# Altium footprint library Common-Parts-Library.PcbLib: 20 footprints (part 1 of 2)
Each footprint in its own frame and in the unit in brackets; x right, y up, seen from the top. Pads: shape width x height; smd on the part's side, far side on the other; paste and mask are expansions set on the pad; w line width, h text height; cw(c..) or ccw(c..) is an arc to the next point about the centre after c.
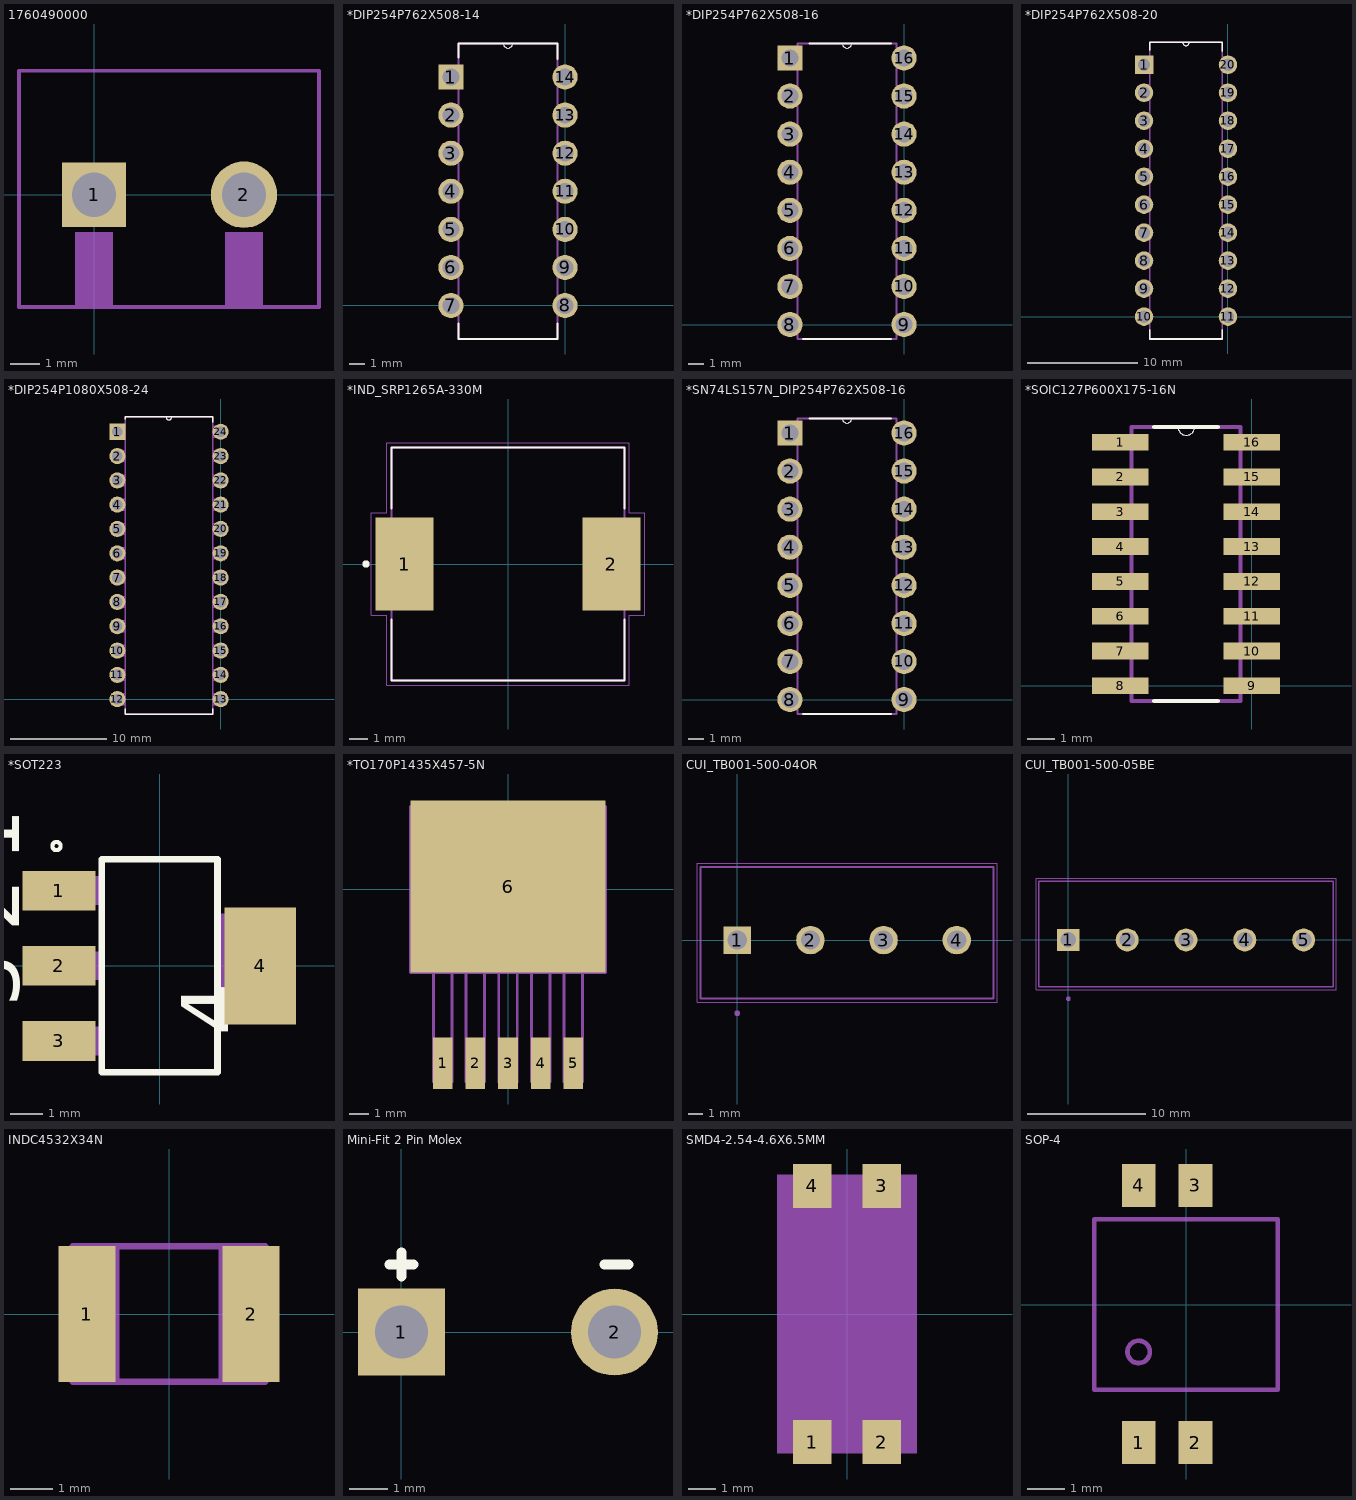
[diagram p0: the footprints below, top view; thin cyan lines are the x and y axes]

## 1760490000 [mil]
pads (2):
  rect 85.78x85.78 / inner rect 60x60 / far side rect 85.78x85.78 hole 59.06: 1(0,0)
  round 88.59 / inner round 60 / far side round 88.59 hole 59.06: 2(200,0)
Mechanical 22:
  region: -25.01,-150.06 -25.01,-50 25,-50 25,-150.06
  region: 175.22,-150.19 175.22,-50 225,-50 225,-150.19
  lines w5: -100,-149.61 -100,165.35 300,165.35 300,-149.61 -100,-149.61

## *DIP254P762X508-14 [mil]
pads (14):
  rect 66x66 hole 44: 1(-300,600)
  round 66 hole 44: 2(-300,500) 3(-300,400) 4(-300,300) 5(-300,200) 6(-300,100) 7(-300,0) 8(0,0) 9(0,100) 10(0,200) 11(0,300) 12(0,400) 13(0,500) 14(0,600)
Top Overlay:
  lines w0: -162,688 ccw(c-150,688) -138,688
  lines w6: -280,-48 -280,-88 -20,-88 -20,-48 ; -280,652 -280,688 -162,688 -138,688 -20,688 -20,648
Mechanical 4:
  lines w0: -162,688 ccw(c-150,688) -138,688 cw(c-150,688) -162,688
  lines w6: -322,-22 -322,22 ; -322,-22 -280,-22 ; -322,-22 -322,22 ; -322,-22 -280,-22 ; -322,22 -280,22 ; -322,22 -280,22 ; -322,78 -322,122 ; -322,78 -280,78 ; -322,78 -322,122 ; -322,78 -280,78 ; -322,122 -280,122 ; -322,122 -280,122 ; -322,178 -322,222 ; -322,178 -280,178 ; -322,178 -322,222 ; -322,178 -280,178 ; -322,222 -280,222 ; -322,222 -280,222 ; -322,278 -322,322 ; -322,278 -280,278 ; -322,278 -322,322 ; -322,278 -280,278 ; -322,322 -280,322 ; -322,322 -280,322 ; -322,378 -322,422 ; -322,378 -280,378 ; -322,378 -322,422 ; -322,378 -280,378 ; -322,422 -280,422 ; -322,422 -280,422 ; -322,478 -322,522 ; -322,478 -280,478 ; -322,478 -322,522 ; -322,478 -280,478 ; -322,522 -280,522 ; -322,522 -280,522 ; -322,578 -322,622 ; -322,578 -280,578 ; -322,578 -322,622 ; -322,578 -280,578 ; -322,622 -280,622 ; -322,622 -280,622 ; -280,-88 -20,-88 ; -280,-88 -280,688 ; -280,-88 -20,-88 ; -280,-88 -280,688 ; -280,-22 -280,22 ; -280,-22 -280,22 ; -280,78 -280,122 ; -280,78 -280,122 ; -280,178 -280,222 ; -280,178 -280,222 ; -280,278 -280,322 ; -280,278 -280,322 ; -280,378 -280,422 ; -280,378 -280,422 ; -280,478 -280,522 ; -280,478 -280,522 ; -280,578 -280,622 ; -280,578 -280,622 ; -280,688 -162,688 ; -280,688 -162,688 ; -162,688 -138,688 ; -162,688 -138,688 ; -138,688 -20,688 ; -138,688 -20,688 ; -20,-88 -20,688 ; -20,-88 -20,688 ; -20,-22 -20,22 ; -20,-22 22,-22 ; -20,-22 -20,22 ; -20,-22 22,-22 ; -20,22 22,22 ; -20,22 22,22 ; -20,78 -20,122 ; -20,78 22,78 ; -20,78 -20,122 ; -20,78 22,78 ; -20,122 22,122 ; -20,122 22,122 ; -20,178 -20,222 ; -20,178 22,178 ; -20,178 -20,222 ; -20,178 22,178 ; -20,222 22,222 ; -20,222 22,222 ; -20,278 -20,322 ; -20,278 22,278 ; -20,278 -20,322 ; -20,278 22,278 ; -20,322 22,322 ; -20,322 22,322 ; -20,378 -20,422 ; -20,378 22,378 ; -20,378 -20,422 ; -20,378 22,378 ; -20,422 22,422 ; -20,422 22,422 ; -20,478 -20,522 ; -20,478 22,478 ; -20,478 -20,522 ; -20,478 22,478 ; -20,522 22,522 ; -20,522 22,522 ; -20,578 -20,622 ; -20,578 22,578 ; -20,578 -20,622 ; -20,578 22,578 ; -20,622 22,622 ; -20,622 22,622 ; 22,-22 22,22 ; 22,-22 22,22 ; 22,78 22,122 ; 22,78 22,122 ; 22,178 22,222 ; 22,178 22,222 ; 22,278 22,322 ; 22,278 22,322 ; 22,378 22,422 ; 22,378 22,422 ; 22,478 22,522 ; 22,478 22,522 ; 22,578 22,622 ; 22,578 22,622

## *DIP254P762X508-16 [mil]
pads (16):
  rect 66x66 hole 44: 1(-300,700)
  round 66 hole 44: 2(-300,600) 3(-300,500) 4(-300,400) 5(-300,300) 6(-300,200) 7(-300,100) 8(-300,0) 9(0,0) 10(0,100) 11(0,200) 12(0,300) 13(0,400) 14(0,500) 15(0,600) 16(0,700)
Top Overlay:
  lines w0: -162,738 ccw(c-150,738) -138,738
  lines w6: -265,-38 -35,-38 ; -248,738 -162,738 -138,738 -35,738
Mechanical 4:
  lines w0: -162,738 ccw(c-150,738) -138,738 cw(c-150,738) -162,738
  lines w6: -322,-22 -322,22 ; -322,-22 -280,-22 ; -322,-22 -322,22 ; -322,-22 -280,-22 ; -322,22 -280,22 ; -322,22 -280,22 ; -322,78 -322,122 ; -322,78 -280,78 ; -322,78 -322,122 ; -322,78 -280,78 ; -322,122 -280,122 ; -322,122 -280,122 ; -322,178 -322,222 ; -322,178 -280,178 ; -322,178 -322,222 ; -322,178 -280,178 ; -322,222 -280,222 ; -322,222 -280,222 ; -322,278 -322,322 ; -322,278 -280,278 ; -322,278 -322,322 ; -322,278 -280,278 ; -322,322 -280,322 ; -322,322 -280,322 ; -322,378 -322,422 ; -322,378 -280,378 ; -322,378 -322,422 ; -322,378 -280,378 ; -322,422 -280,422 ; -322,422 -280,422 ; -322,478 -322,522 ; -322,478 -280,478 ; -322,478 -322,522 ; -322,478 -280,478 ; -322,522 -280,522 ; -322,522 -280,522 ; -322,578 -322,622 ; -322,578 -280,578 ; -322,578 -322,622 ; -322,578 -280,578 ; -322,622 -280,622 ; -322,622 -280,622 ; -322,678 -322,722 ; -322,678 -280,678 ; -322,678 -322,722 ; -322,678 -280,678 ; -322,722 -280,722 ; -322,722 -280,722 ; -280,-38 -20,-38 ; -280,-38 -280,738 ; -280,-38 -20,-38 ; -280,-38 -280,738 ; -280,-22 -280,22 ; -280,-22 -280,22 ; -280,78 -280,122 ; -280,78 -280,122 ; -280,178 -280,222 ; -280,178 -280,222 ; -280,278 -280,322 ; -280,278 -280,322 ; -280,378 -280,422 ; -280,378 -280,422 ; -280,478 -280,522 ; -280,478 -280,522 ; -280,578 -280,622 ; -280,578 -280,622 ; -280,678 -280,722 ; -280,678 -280,722 ; -280,738 -162,738 ; -280,738 -162,738 ; -162,738 -138,738 ; -162,738 -138,738 ; -138,738 -20,738 ; -138,738 -20,738 ; -20,-38 -20,738 ; -20,-38 -20,738 ; -20,-22 -20,22 ; -20,-22 22,-22 ; -20,-22 -20,22 ; -20,-22 22,-22 ; -20,22 22,22 ; -20,22 22,22 ; -20,78 -20,122 ; -20,78 22,78 ; -20,78 -20,122 ; -20,78 22,78 ; -20,122 22,122 ; -20,122 22,122 ; -20,178 -20,222 ; -20,178 22,178 ; -20,178 -20,222 ; -20,178 22,178 ; -20,222 22,222 ; -20,222 22,222 ; -20,278 -20,322 ; -20,278 22,278 ; -20,278 -20,322 ; -20,278 22,278 ; -20,322 22,322 ; -20,322 22,322 ; -20,378 -20,422 ; -20,378 22,378 ; -20,378 -20,422 ; -20,378 22,378 ; -20,422 22,422 ; -20,422 22,422 ; -20,478 -20,522 ; -20,478 22,478 ; -20,478 -20,522 ; -20,478 22,478 ; -20,522 22,522 ; -20,522 22,522 ; -20,578 -20,622 ; -20,578 22,578 ; -20,578 -20,622 ; -20,578 22,578 ; -20,622 22,622 ; -20,622 22,622 ; -20,678 -20,722 ; -20,678 22,678 ; -20,678 -20,722 ; -20,678 22,678 ; -20,722 22,722 ; -20,722 22,722 ; 22,-22 22,22 ; 22,-22 22,22 ; 22,78 22,122 ; 22,78 22,122 ; 22,178 22,222 ; 22,178 22,222 ; 22,278 22,322 ; 22,278 22,322 ; 22,378 22,422 ; 22,378 22,422 ; 22,478 22,522 ; 22,478 22,522 ; 22,578 22,622 ; 22,578 22,622 ; 22,678 22,722 ; 22,678 22,722

## *DIP254P762X508-20 [mil]
pads (20):
  rect 66x66 hole 44: 1(-300,900)
  round 66 hole 44: 2(-300,800) 3(-300,700) 4(-300,600) 5(-300,500) 6(-300,400) 7(-300,300) 8(-300,200) 9(-300,100) 10(-300,0) 11(0,0) 12(0,100) 13(0,200) 14(0,300) 15(0,400) 16(0,500) 17(0,600) 18(0,700) 19(0,800) 20(0,900)
Top Overlay:
  lines w0: -162,980 ccw(c-150,980) -138,980
  lines w6: -280,-48 -280,-80 -20,-80 -20,-48 ; -280,952 -280,980 -162,980 -138,980 -20,980 -20,948
Mechanical 4:
  drawing of 174 lines, arcs and shapes, not listed

## *DIP254P1080X508-24 [mil]
pads (24):
  rect 66x66 hole 44: 1(-425,1100)
  round 66 hole 44: 2(-425,1000) 3(-425,900) 4(-425,800) 5(-425,700) 6(-425,600) 7(-425,500) 8(-425,400) 9(-425,300) 10(-425,200) 11(-425,100) 12(-425,0) 13(0,0) 14(0,100) 15(0,200) 16(0,300) 17(0,400) 18(0,500) 19(0,600) 20(0,700) 21(0,800) 22(0,900) 23(0,1000) 24(0,1100)
Top Overlay:
  lines w0: -225,1161 ccw(c-213,1161) -201,1161
  lines w6: -393,-40 -393,-61 -33,-61 -33,-40 ; -393,1152 -393,1161 -225,1161 -201,1161 -33,1161 -33,1140
Mechanical 4:
  drawing of 206 lines, arcs and shapes, not listed

## *IND_SRP1265A-330M [mm]
pads (2):
  rect 3.1x5 smd: 1(-5.55,0) 2(5.55,0)
Top Overlay:
  circle w0.2: c-7.62,0 r0.1
  lines w0.127: -6.25,-3 -6.25,-6.25 6.25,-6.25 6.25,-3 ; -6.25,3 -6.25,6.25 6.25,6.25 6.25,3
Mechanical 4:
  lines w0.127: -6.25,-6.25 6.25,-6.25 ; -6.25,-6.25 -6.25,6.25 ; -6.25,-6.25 6.25,-6.25 ; -6.25,-6.25 -6.25,6.25 ; -6.25,6.25 6.25,6.25 ; -6.25,6.25 6.25,6.25 ; 6.25,-6.25 6.25,6.25 ; 6.25,-6.25 6.25,6.25
Mechanical 16:
  lines w0.05: -7.35,-2.75 -6.5,-2.75 -6.5,-6.5 6.5,-6.5 6.5,-2.75 7.35,-2.75 7.35,2.75 6.5,2.75 6.5,6.5 -6.5,6.5 -6.5,2.75 -7.35,2.75 -7.35,-2.75

## *SN74LS157N_DIP254P762X508-16 [mil]
pads (16):
  rect 66x66 hole 44: 1(-300,700)
  round 66 hole 44: 2(-300,600) 3(-300,500) 4(-300,400) 5(-300,300) 6(-300,200) 7(-300,100) 8(-300,0) 9(0,0) 10(0,100) 11(0,200) 12(0,300) 13(0,400) 14(0,500) 15(0,600) 16(0,700)
Top Overlay:
  lines w0: -162,738 ccw(c-150,738) -138,738
  lines w6: -265,-38 -35,-38 ; -248,738 -162,738 -138,738 -35,738
Mechanical 4:
  lines w0: -162,738 ccw(c-150,738) -138,738 cw(c-150,738) -162,738
  lines w6: -322,-22 -322,22 ; -322,-22 -280,-22 ; -322,-22 -322,22 ; -322,-22 -280,-22 ; -322,22 -280,22 ; -322,22 -280,22 ; -322,78 -322,122 ; -322,78 -280,78 ; -322,78 -322,122 ; -322,78 -280,78 ; -322,122 -280,122 ; -322,122 -280,122 ; -322,178 -322,222 ; -322,178 -280,178 ; -322,178 -322,222 ; -322,178 -280,178 ; -322,222 -280,222 ; -322,222 -280,222 ; -322,278 -322,322 ; -322,278 -280,278 ; -322,278 -322,322 ; -322,278 -280,278 ; -322,322 -280,322 ; -322,322 -280,322 ; -322,378 -322,422 ; -322,378 -280,378 ; -322,378 -322,422 ; -322,378 -280,378 ; -322,422 -280,422 ; -322,422 -280,422 ; -322,478 -322,522 ; -322,478 -280,478 ; -322,478 -322,522 ; -322,478 -280,478 ; -322,522 -280,522 ; -322,522 -280,522 ; -322,578 -322,622 ; -322,578 -280,578 ; -322,578 -322,622 ; -322,578 -280,578 ; -322,622 -280,622 ; -322,622 -280,622 ; -322,678 -322,722 ; -322,678 -280,678 ; -322,678 -322,722 ; -322,678 -280,678 ; -322,722 -280,722 ; -322,722 -280,722 ; -280,-38 -20,-38 ; -280,-38 -280,738 ; -280,-38 -20,-38 ; -280,-38 -280,738 ; -280,-22 -280,22 ; -280,-22 -280,22 ; -280,78 -280,122 ; -280,78 -280,122 ; -280,178 -280,222 ; -280,178 -280,222 ; -280,278 -280,322 ; -280,278 -280,322 ; -280,378 -280,422 ; -280,378 -280,422 ; -280,478 -280,522 ; -280,478 -280,522 ; -280,578 -280,622 ; -280,578 -280,622 ; -280,678 -280,722 ; -280,678 -280,722 ; -280,738 -162,738 ; -280,738 -162,738 ; -162,738 -138,738 ; -162,738 -138,738 ; -138,738 -20,738 ; -138,738 -20,738 ; -20,-38 -20,738 ; -20,-38 -20,738 ; -20,-22 -20,22 ; -20,-22 22,-22 ; -20,-22 -20,22 ; -20,-22 22,-22 ; -20,22 22,22 ; -20,22 22,22 ; -20,78 -20,122 ; -20,78 22,78 ; -20,78 -20,122 ; -20,78 22,78 ; -20,122 22,122 ; -20,122 22,122 ; -20,178 -20,222 ; -20,178 22,178 ; -20,178 -20,222 ; -20,178 22,178 ; -20,222 22,222 ; -20,222 22,222 ; -20,278 -20,322 ; -20,278 22,278 ; -20,278 -20,322 ; -20,278 22,278 ; -20,322 22,322 ; -20,322 22,322 ; -20,378 -20,422 ; -20,378 22,378 ; -20,378 -20,422 ; -20,378 22,378 ; -20,422 22,422 ; -20,422 22,422 ; -20,478 -20,522 ; -20,478 22,478 ; -20,478 -20,522 ; -20,478 22,478 ; -20,522 22,522 ; -20,522 22,522 ; -20,578 -20,622 ; -20,578 22,578 ; -20,578 -20,622 ; -20,578 22,578 ; -20,622 22,622 ; -20,622 22,622 ; -20,678 -20,722 ; -20,678 22,678 ; -20,678 -20,722 ; -20,678 22,678 ; -20,722 22,722 ; -20,722 22,722 ; 22,-22 22,22 ; 22,-22 22,22 ; 22,78 22,122 ; 22,78 22,122 ; 22,178 22,222 ; 22,178 22,222 ; 22,278 22,322 ; 22,278 22,322 ; 22,378 22,422 ; 22,378 22,422 ; 22,478 22,522 ; 22,478 22,522 ; 22,578 22,622 ; 22,578 22,622 ; 22,678 22,722 ; 22,678 22,722

## *SOIC127P600X175-16N [mil]
pads (16):
  rect 81x24 smd: 1(-189,350) 2(-189,300) 3(-189,250) 4(-189,200) 5(-189,150) 6(-189,100) 7(-189,50) 8(-189,0) 9(0,0) 10(0,50) 11(0,100) 12(0,150) 13(0,200) 14(0,250) 15(0,300) 16(0,350)
Top Overlay:
  lines w0: -106,372 ccw(c-94,372) -82,372
  lines w6: -140,-22 -49,-22 ; -140,372 -106,372 -82,372 -49,372
Mechanical 4:
  lines w0: -106,372 ccw(c-94,372) -82,372 cw(c-94,372) -106,372
  lines w6: -173,-22 -16,-22 ; -173,-22 -173,372 ; -173,-22 -16,-22 ; -173,-22 -173,372 ; -173,372 -106,372 ; -173,372 -106,372 ; -106,372 -82,372 ; -106,372 -82,372 ; -82,372 -16,372 ; -82,372 -16,372 ; -16,-22 -16,372 ; -16,-22 -16,372 ; -189,0 -173,0 -189,0 ; -189,50 -173,50 -189,50 ; -189,100 -173,100 -189,100 ; -189,150 -173,150 -189,150 ; -189,200 -173,200 -189,200 ; -189,250 -173,250 -189,250 ; -189,300 -173,300 -189,300 ; -189,350 -173,350 -189,350 ; -16,0 0,0 -16,0 ; -16,50 0,50 -16,50 ; -16,100 0,100 -16,100 ; -16,150 0,150 -16,150 ; -16,200 0,200 -16,200 ; -16,250 0,250 -16,250 ; -16,300 0,300 -16,300 ; -16,350 0,350 -16,350

## *SOT223 [mil]
pads (4):
  rect 88x48 smd: 1(-122,91) 2(-122,0) 3(-122,-91)
  rect 86.61x141.73 smd: 4(122.01,0)
Top Overlay:
  circle w5: c-125,145 r5
  lines w8: -70,-129 70,-129 70,129 -70,129 -70,-129
  text "3" at -170.22,-50.08 h73.82
  text "4" at 100.06,-84.89 h73.82
  text "1" at -170.02,126.1 h73.82
  text "2" at -170.37,40.97 h73.82
Mechanical 4:
  region: 144.02,62.98 144.02,-63 71,-63 71,62.98
  region: -71.05,17.05 -71.05,-17.09 -144.09,-17.09 -144.09,17.05
  region: -71.09,108.09 -71.09,73.97 -144.03,73.97 -144.03,108.09
  region: -71,-74 -71,-108.14 -144.14,-108.14 -144.14,-74
  region: 144.05,62.95 144.05,-63 71,-63 71,62.95
  region: -71.08,17.08 -71.08,-17.15 -144.15,-17.15 -144.15,17.08
  region: -71.15,108.15 -71.15,73.94 -144.06,73.94 -144.06,108.15
  region: -71,-74 -71,-108.07 -144.07,-108.07 -144.07,-74
  region: 144.02,62.98 144.02,-63 71,-63 71,62.98
  region: -71.05,17.05 -71.05,-17.09 -144.09,-17.09 -144.09,17.05
  region: -71.09,108.09 -71.09,73.97 -144.03,73.97 -144.03,108.09
  region: -71,-74 -71,-108.14 -144.14,-108.14 -144.14,-74
  region: 144.05,62.95 144.05,-63 71,-63 71,62.95
  region: -71.08,17.08 -71.08,-17.15 -144.15,-17.15 -144.15,17.08
  region: -71.15,108.15 -71.15,73.94 -144.06,73.94 -144.06,108.15
  region: -71,-74 -71,-108.07 -144.07,-108.07 -144.07,-74

## *TO170P1435X457-5N [mil]
pads (6):
  rect 40x106 smd: 1(-134,-356) 2(-67,-356) 3(0,-356) 4(67,-356) 5(134,-356)
  rect 400x352 smd: 6(0,6)
Mechanical 4:
  lines w6: -200,-170 -200,170 ; -200,-170 200,-170 ; -200,-170 -200,170 ; -200,-170 200,-170 ; -200,170 200,170 ; -200,170 200,170 ; -153,-395 -115,-395 ; -153,-395 -153,-170 ; -153,-395 -115,-395 ; -153,-395 -153,-170 ; -153,-170 -115,-170 ; -153,-170 -115,-170 ; -115,-395 -115,-170 ; -115,-395 -115,-170 ; -86,-395 -48,-395 ; -86,-395 -86,-170 ; -86,-395 -48,-395 ; -86,-395 -86,-170 ; -86,-170 -48,-170 ; -86,-170 -48,-170 ; -48,-395 -48,-170 ; -48,-395 -48,-170 ; -19,-395 19,-395 ; -19,-395 -19,-170 ; -19,-395 19,-395 ; -19,-395 -19,-170 ; -19,-170 19,-170 ; -19,-170 19,-170 ; 19,-395 19,-170 ; 19,-395 19,-170 ; 48,-395 86,-395 ; 48,-395 48,-170 ; 48,-395 86,-395 ; 48,-395 48,-170 ; 48,-170 86,-170 ; 48,-170 86,-170 ; 86,-395 86,-170 ; 86,-395 86,-170 ; 115,-395 153,-395 ; 115,-395 115,-170 ; 115,-395 153,-395 ; 115,-395 115,-170 ; 115,-170 153,-170 ; 115,-170 153,-170 ; 153,-395 153,-170 ; 153,-395 153,-170 ; 200,-170 200,170 ; 200,-170 200,170

## CUI_TB001-500-04OR [mm]
pads (4):
  rect 1.888x1.888 / inner rect 1.524x1.524 / far side rect 1.888x1.888 hole 1.3: 1(0,0)
  round 1.95 / inner round 1.524 / far side round 1.95 hole 1.3: 2(5,0) 3(10,0) 4(15,0)
Mechanical 8:
  circle w0.2: c0,-5 r0.1
  lines w0.127: -2.5,-4 -2.5,5 17.5,5 17.5,-4 -2.5,-4
Mechanical 22:
  circle w0.2: c0,-5 r0.1
  lines w0.127: -2.5,-4 -2.5,5 17.5,5 17.5,-4 -2.5,-4
Mechanical 30:
  lines w0.05: -2.75,-4.25 17.75,-4.25 17.75,5.25 -2.75,5.25 -2.75,-4.25

## CUI_TB001-500-05BE [mm]
pads (5):
  rect 1.888x1.888 / inner rect 1.524x1.524 / far side rect 1.888x1.888 hole 1.3: 1(0,0)
  round 1.95 / inner round 1.524 / far side round 1.95 hole 1.3: 2(5,0) 3(10,0) 4(15,0) 5(20,0)
Mechanical 8:
  circle w0.2: c0,-5 r0.1
  lines w0.127: -2.5,-4 -2.5,5 22.5,5 22.5,-4 -2.5,-4
Mechanical 22:
  circle w0.2: c0,-5 r0.1
  lines w0.127: -2.5,-4 -2.5,5 22.5,5 22.5,-4 -2.5,-4
Mechanical 30:
  lines w0.05: -2.75,-4.25 22.75,-4.25 22.75,5.25 -2.75,5.25 -2.75,-4.25

## INDC4532X34N [mil]
pads (2):
  rect 53x126 smd: 1(-76,0) 2(76,0)
Mechanical 8:
  lines w6: -49,-63 -49,63 ; -49,-63 -89,-63 -89,63 -49,63 ; -49,-63 49,-63 ; -49,63 49,63 ; 49,-63 49,63 ; 49,-63 89,-63 89,63 49,63
Mechanical 22:
  lines w6: -36,-63 36,-63 ; -36,63 36,63

## Mini-Fit 2 Pin Molex [mil]
pads (2):
  rect 90x90 hole 55: 1(0,0)
  round 90 hole 55: 2(220.47,0)
Top Overlay:
  lines w10: -12.5,70 12.5,70 0,70 ; 0,57.5 0,82.5 ; 210,70 235,70

## SMD4-2.54-4.6X6.5MM [mil]
pads (4):
  rect 55.12x62.99 smd: 1(-50,-184.25) 2(50,-184.25) 3(50,184.25) 4(-50,184.25)
Mechanical 8:
  region: 0,0 10,0 10,10 0,10
  region: 0,0 10,0 10,10 0,10
  region: 0,0 10,0 10,10 0,10
  region: 0,0 10,0 10,10 0,10
Mechanical 22:
  circle w0: c-50,-100 r25
  lines w5: -90.55,-127.95 90.55,-127.95 90.55,127.95 -90.55,127.95 -90.55,-127.95
Mechanical 30:
  region: -100.05,-200.11 -100.05,200 100,200 100,-200.11

## SOP-4 [mil]
pads (4):
  rect 35.43x45.28 smd: 1(-50,-145.67) 2(10,-145.67) 3(10,125.67) 4(-50,125.67)
Mechanical 22:
  circle w5: c-50,-50 r11.81
  lines w5: -96.85,-89.96 -96.85,89.96 96.85,89.96 96.85,-89.96 -96.85,-89.96